# Altium footprint library DZ_PcbLib.PcbLib: 7 footprints
Each footprint in its own frame and in the unit in brackets; x right, y up, seen from the top. Pads: shape width x height; smd on the part's side, far side on the other; paste and mask are expansions set on the pad; w line width, h text height; cw(c..) or ccw(c..) is an arc to the next point about the centre after c.
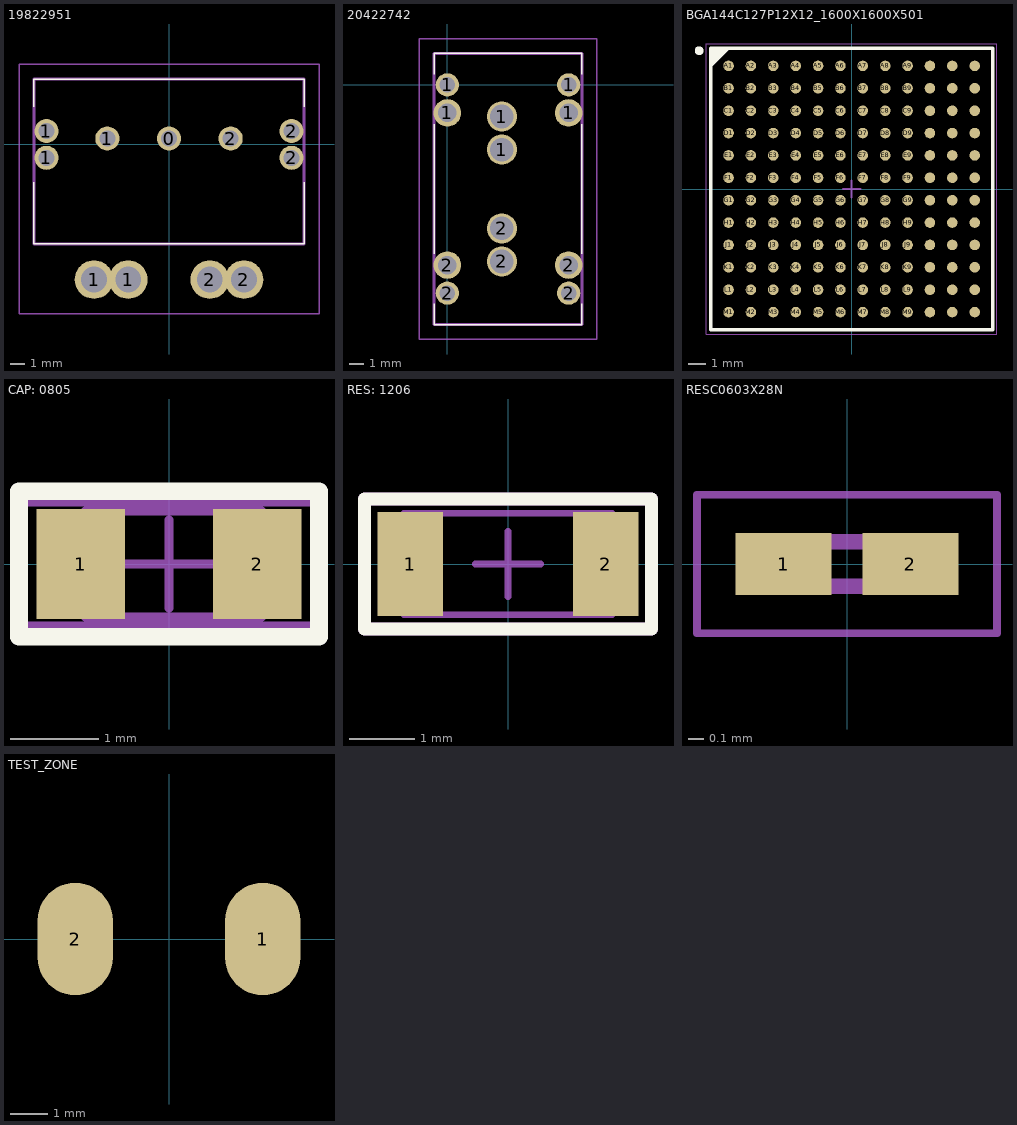
[diagram p0: the footprints below, top view; thin cyan lines are the x and y axes]

## 19822951 [mm]
pads (11):
  round 1.62 hole 1.08: 0(0,0.4) 1(-8.25,-0.9) 1(-8.25,0.9) 1(-4.15,0.4) 2(4.15,0.4) 2(8.25,-0.9) 2(8.25,0.9)
  round 2.599 hole 1.733: 1(-5.05,-9.1) 1(-2.75,-9.1) 2(2.75,-9.1) 2(5.05,-9.1)
Top Overlay:
  lines w0.1: -9.1,-2.54 -9.1,-6.7 9.1,-6.7 9.1,-2.54 ; -9.1,2.54 -9.1,4.4 9.1,4.4 9.1,2.54
Mechanical 13:
  lines w0.2: -9.1,-6.7 9.1,-6.7 9.1,4.4 -9.1,4.4 -9.1,-6.7
Mechanical 15:
  lines w0.1: -10.1,-11.4 10.1,-11.4 10.1,5.4 -10.1,5.4 -10.1,-11.4
3D body "1982295-1.stp": height 7.91, standoff -2.79, extent -9.1,-9.53 9.1,4.27

## 20422742 [mm]
pads (12):
  round 1.92 hole 1.28: 1(0,-1.95) 1(8.45,-1.95) 2(0,-12.55) 2(8.45,-12.55)
  round 1.62 hole 1.08: 1(0,0) 1(8.45,0) 2(0,-14.5) 2(8.45,-14.5)
  round 2.1 hole 1.64: 1(3.8,-4.5) 1(3.8,-2.2) 2(3.8,-12.3) 2(3.8,-10)
Top Overlay:
  lines w0.1: -0.925,-15.25 -0.925,-16.7 9.375,-16.7 9.375,-15.25 ; -0.925,-11.75 -0.925,-2.75 ; -0.925,0.75 -0.925,2.2 9.375,2.2 9.375,0.75 ; 9.375,-11.75 9.375,-2.75
Mechanical 13:
  lines w0.2: -0.925,-16.7 9.375,-16.7 9.375,2.2 -0.925,2.2 -0.925,-16.7
Mechanical 15:
  lines w0.1: -1.96,-17.7 10.41,-17.7 10.41,3.2 -1.96,3.2 -1.96,-17.7
3D body "2042274-2.stp": height 11.12, standoff -2.93, extent -0.825,-16.6 9.475,2.3

## BGA144C127P12X12_1600X1600X501 [mm] "BGA, 144-Leads, Body 16,00x16,00mmx5,01mm, Pitch 1,27mm"
height 5.01
pads (144):
  round 0.6 smd: A1(-6.985,6.985) A2(-5.715,6.985) A3(-4.445,6.985) A4(-3.175,6.985) A5(-1.905,6.985) A6(-0.635,6.985) A7(0.635,6.985) A8(1.905,6.985) A9(3.175,6.985) A10(4.445,6.985) A11(5.715,6.985) A12(6.985,6.985) B1(-6.985,5.715) B2(-5.715,5.715) B3(-4.445,5.715) B4(-3.175,5.715) B5(-1.905,5.715) B6(-0.635,5.715) B7(0.635,5.715) B8(1.905,5.715) B9(3.175,5.715) B10(4.445,5.715) B11(5.715,5.715) B12(6.985,5.715) C1(-6.985,4.445) C2(-5.715,4.445) C3(-4.445,4.445) C4(-3.175,4.445) C5(-1.905,4.445) C6(-0.635,4.445) C7(0.635,4.445) C8(1.905,4.445) C9(3.175,4.445) C10(4.445,4.445) C11(5.715,4.445) C12(6.985,4.445) D1(-6.985,3.175) D2(-5.715,3.175) D3(-4.445,3.175) D4(-3.175,3.175) D5(-1.905,3.175) D6(-0.635,3.175) D7(0.635,3.175) D8(1.905,3.175) D9(3.175,3.175) D10(4.445,3.175) D11(5.715,3.175) D12(6.985,3.175) E1(-6.985,1.905) E2(-5.715,1.905) E3(-4.445,1.905) E4(-3.175,1.905) E5(-1.905,1.905) E6(-0.635,1.905) E7(0.635,1.905) E8(1.905,1.905) E9(3.175,1.905) E10(4.445,1.905) E11(5.715,1.905) E12(6.985,1.905) F1(-6.985,0.635) F2(-5.715,0.635) F3(-4.445,0.635) F4(-3.175,0.635) F5(-1.905,0.635) F6(-0.635,0.635) F7(0.635,0.635) F8(1.905,0.635) F9(3.175,0.635) F10(4.445,0.635) F11(5.715,0.635) F12(6.985,0.635) G1(-6.985,-0.635) G2(-5.715,-0.635) G3(-4.445,-0.635) G4(-3.175,-0.635) G5(-1.905,-0.635) G6(-0.635,-0.635) G7(0.635,-0.635) G8(1.905,-0.635) G9(3.175,-0.635) G10(4.445,-0.635) G11(5.715,-0.635) G12(6.985,-0.635) H1(-6.985,-1.905) H2(-5.715,-1.905) H3(-4.445,-1.905) H4(-3.175,-1.905) H5(-1.905,-1.905) H6(-0.635,-1.905) H7(0.635,-1.905) H8(1.905,-1.905) H9(3.175,-1.905) H10(4.445,-1.905) H11(5.715,-1.905) H12(6.985,-1.905) J1(-6.985,-3.175) J2(-5.715,-3.175) J3(-4.445,-3.175) J4(-3.175,-3.175) J5(-1.905,-3.175) J6(-0.635,-3.175) J7(0.635,-3.175) J8(1.905,-3.175) J9(3.175,-3.175) J10(4.445,-3.175) J11(5.715,-3.175) J12(6.985,-3.175) K1(-6.985,-4.445) K2(-5.715,-4.445) K3(-4.445,-4.445) K4(-3.175,-4.445) K5(-1.905,-4.445) K6(-0.635,-4.445) K7(0.635,-4.445) K8(1.905,-4.445) K9(3.175,-4.445) K10(4.445,-4.445) K11(5.715,-4.445) K12(6.985,-4.445) L1(-6.985,-5.715) L2(-5.715,-5.715) L3(-4.445,-5.715) L4(-3.175,-5.715) L5(-1.905,-5.715) L6(-0.635,-5.715) L7(0.635,-5.715) L8(1.905,-5.715) L9(3.175,-5.715) L10(4.445,-5.715) L11(5.715,-5.715) L12(6.985,-5.715) M1(-6.985,-6.985) M2(-5.715,-6.985) M3(-4.445,-6.985) M4(-3.175,-6.985) M5(-1.905,-6.985) M6(-0.635,-6.985) M7(0.635,-6.985) M8(1.905,-6.985) M9(3.175,-6.985) M10(4.445,-6.985) M11(5.715,-6.985) M12(6.985,-6.985)
Top Overlay:
  circle w0.25: c-8.65,7.85 r0.125
  region: -7,8 -8,7 -8,8
  lines w0.2: -8,7 -7,8 ; -8,-8 8,-8 8,8 -8,8 -8,-8
Mechanical 13:
  lines w0.1: -8,-8 8,-8 8,8 -8,8 -8,-8
Mechanical 15:
  lines w0.05: -8.25,-8.25 8.25,-8.25 8.25,8.25 -8.25,8.25 -8.25,-8.25
  lines w0.1: -0.5,0 0.5,0 ; 0,-0.5 0,0.5
3D body "BGA144C127P12X12_1600X1600X501.step": height 5.01, standoff 0, extent -8,-8 8,8

## CAP: 0805 [mm]
height 0.45
pads (2):
  rect 1x1.25 smd: 1(-1,0) 2(1,0)
Top Overlay:
  lines w0.2: -1.7,-0.825 -1.7,0.825 1.7,0.825 1.7,-0.825 -1.7,-0.825
Mechanical 1:
  lines w0.1: -0.949,-0.6 -0.949,0.6 1.05,0.6 1.05,-0.6 -0.949,-0.6
Mechanical 13:
  lines w0.2: -1.7,-0.8 1.7,-0.8 1.7,0.8 -1.7,0.8 -1.7,-0.8
Mechanical 15:
  lines w0.1: -0.5,0 0.5,0 ; 0,-0.5 0,0.5 ; -1.7,-0.7 1.7,-0.7 1.7,0.7 -1.7,0.7 -1.7,-0.7
3D body "SW3dPS-0805 SMD Capacitor.STEP": height 0.78, standoff 0, extent -1,-0.625 1,0.625

## RES: 1206 [mm]
height 0.6
pads (2):
  rect 1x1.6 smd: 1(-1.5,0) 2(1.5,0)
Top Overlay:
  lines w0.2: -2.2,-1 2.2,-1 2.2,1 -2.2,1 -2.2,-1
Mechanical 1:
  lines w0.1: -1.6,-0.775 1.6,-0.775 1.6,0.775 -1.6,0.775 -1.6,-0.775
Mechanical 13:
  lines w0.2: -2.2,-1 -2.2,1 2.2,1 2.2,-1 -2.2,-1
Mechanical 15:
  lines w0.1: -0.5,0 0.5,0 ; 0,-0.5 0,0.5 ; -2.2,-1 -2.2,1 2.2,1 2.2,-1 -2.2,-1
3D body "chip_1206_r.STEP": height 0.47, standoff -0.03, extent -1.65,-0.8 1.55,0.8

## RESC0603X28N [mm]
pads (2):
  rect 0.625x0.4 smd: 1(-0.412,0) 2(0.412,0)
Mechanical 13:
  lines w0.1: -0.29,-0.145 -0.29,0.145 0.29,0.145 0.29,-0.145 -0.29,-0.145
Mechanical 15:
  lines w0.05: -0.975,-0.45 -0.975,0.45 0.975,0.45 0.975,-0.45 -0.975,-0.45
3D body "CPF0201D124RE1.stp": height 0.28, standoff 0, extent -0.29,-0.145 0.29,0.145

## TEST_ZONE [mm]
pads (2):
  oval 2x3 smd: 1(2.5,0) 2(-2.5,0)